# Altium integrated library Andrew.IntLib: 5 symbols
Pins are listed as number, name and electrical type; pins without a type are passive.

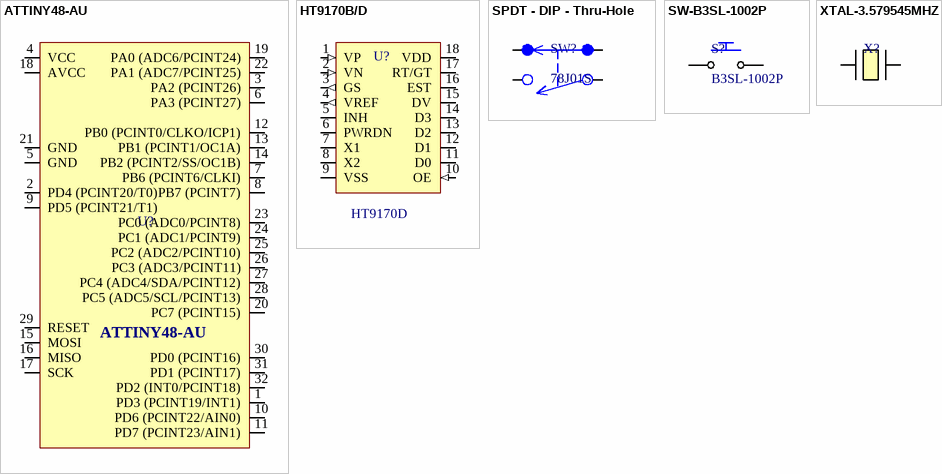
[diagram p0: symbols ATTINY48-AU to XTAL-3.579545MHZ]

## ATTINY48-AU
designator U?
8 Bit Microcontroller, Low Power High Performance, ATtiny, 12 MHz, 4 KB, 256 Byte, 32 Pins, TQFP; Manufacturer: Atmel; Supply Voltage: 2.7V-5.5V; PackageDescription: Thin QFP, 32-Leads, Body 7x7mm, Pitch 0.8mm, IPC Low Density; Package Reference: QFP-32; Supplier 1: Newark; Supplier Part Number 1: 68T3768; Supplier 2: Digi-Key; Supplier Part Number 2: ATTINY48-AU-ND; Part Number: ATTINY48-AU
footprint 32A_M (Thin QFP, 32-Leads, Body 7x7mm, Pitch 0.8mm, IPC Low Density)
pins: 1 PD3 (PCINT19/INT1), 2 PD4 (PCINT20/T0), 3 PA2 (PCINT26), 4 VCC (power), 5 GND (power), 6 PA3 (PCINT27), 7 PB6 (PCINT6/CLKI), 8 PB7 (PCINT7), 9 PD5 (PCINT21/T1), 10 PD6 (PCINT22/AIN0), 11 PD7 (PCINT23/AIN1), 12 PB0 (PCINT0/CLKO/ICP1), 13 PB1 (PCINT1/OC1A), 14 PB2 (PCINT2/SS/OC1B), 15 MOSI, 16 MISO, 17 SCK, 18 AVCC, 19 PA0 (ADC6/PCINT24), 20 PC7 (PCINT15), 21 GND, 22 PA1 (ADC7/PCINT25), 23 PC0 (ADC0/PCINT8), 24 PC1 (ADC1/PCINT9), 25 PC2 (ADC2/PCINT10), 26 PC3 (ADC3/PCINT11), 27 PC4 (ADC4/SDA/PCINT12), 28 PC5 (ADC5/SCL/PCINT13), 29 RESET, 30 PD0 (PCINT16), 31 PD1 (PCINT17), 32 PD2 (INT0/PCINT18)

## HT9170B/D
designator U?, comment Part Number: HT9170D  (hidden comment: HT9170D-18SOPLF)
DTMF Reciever, SOP18; Manufacturer: Holtek; Logic Type: TTL; Output Current (High/Low): .8mA (source) 2.5mA (sink); Supply Voltage: 2.5V-5.5V; Logic Level (High): -; Logic Level (Low): -; Max Propagation Delay: -; PackageDescription: SOIC, 18-Leads, Body 11x7.6mm, Pitch 1.27mm, IPC Low Density; Package Reference: SOIC18-W; Supplier 1: Newark; Supplier Part Number 1: 53M7847
footprint SOIC18-W
pins: 1 VP (in) "Op amp non inverting input", 2 VN (in) "Op amp inverting input", 3 GS (out) "Op Amp output terminal", 4 VREF (out) "Ref Voltage output - VDD/2", 5 INH "Inhibit: Inhibits detection of tones rep ABCD, internally pulled low", 6 PWRDN "Allows device to enter power down mode.  Internally pulled down", 7 X1 "Oscillator, connect 3.579545MHz crystal", 8 X2 "Oscillator, connect 3.579545MHz crystal", 9 VSS "GND", 10 OE (in) "Output enable, active high", 11 D0 "Recieving data output terminals - Tristate. OE=HIGH = value", 12 D1 "Recieving data output terminals - Tristate. OE=HIGH = value", 13 D2 "Recieving data output terminals - Tristate. OE=HIGH = value", 14 D3 "Recieving data output terminals - Tristate. OE=HIGH = value", 15 DV "Data Valid - DV goes high with valid DTMF signal", 16 EST "Early Steering output. See datasheet", 17 RT/GT "Tone Acquisition time and release time, set through  external RC", 18 VDD "Positive Supply"

## SPDT - DIP - Thru-Hole
designator SW?, comment 78J01S
Switch, SPDT, DIP, Raised slide, 1 position, Thru-Hole; Manufacturer: Grayhill Inc.; Voltage Rating (AC/DC): 30Vdc; Configuration: SPDT; Current Rating (AC/DC): -; PackageDescription: SPDT, DIP, 0.1" x 0.3:" pin spacing, 4 pins; Package Reference: SPDT; Part Number: 78J01S; Switch Function: Slide; Supplier 1: Newark; Supplier Part Number 1: 14N1136; Supplier 2: Mouser; Supplier Part Number 2: 706-78J01ST; Supplier 3: Digi-Key; Supplier Part Number 3: GH7736-ND
footprint SPDT (SPDT, DIP, 0.1" x 0.3:" pin spacing, 4 pins)
pins: 1, 2, 3, 4

## SW-B3SL-1002P
designator S?, comment B3SL-1002P
Tactile Switch SPST-NO Top Actuated Surface Mount; Manufacturer: Omron Electronics Inc; Current Rating (AC/DC): 0.05A; Switch Function: Monentary push button; Voltage Rating (AC/DC): 12VDC; Configuration: SPST-NO; PackageDescription: Omron B3SL Switch; Package Reference: Switch-SM-pushbutton; Part Number: B3SL-1002P
footprint Switch-SM-pushbutton (Omron B3SL series switch)
pins: 1, 3

## XTAL-3.579545MHZ
designator X?, comment 9C-3.579545MAAJ-T  (value not drawn)
3.579545MHz ±30ppm Crystal 18pF 200 Ohm -20°C ~ 70°C Surface Mount HC49/US; Manufacturer: TXC Corperation; ESR: 200 Ohm; PackageDescription: SMD Crystal HC49/US-SM package; Package Reference: CRYSTAL_HC49-US-SM; Part Number: 9C-3.579545MAAJ-T; Frequency: 3.579545 MHz; Supplier 1: Digi-Key; Supplier Part Number 1: 887-1040-6-ND; Supplier 2: Newark; Supplier Part Number 2: 39T2599
footprint CRYSTAL_HC49-US-SM (SMD Crystal HC49/US-SM package)
pins: 1, 2